# Altium schematic symbol library KP-3216SRC-PRV.SchLib: 1 symbol
Pins are listed as number, name and electrical type; pins without a type are passive.

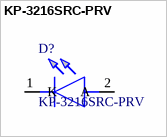
[diagram p0: symbol KP-3216SRC-PRV]

## KP-3216SRC-PRV
designator D?
Red 1206 clear chip-LED KP-3216SRC-PRV Kingbright KP-3216SRC-PRV Red LED, 640 nm 3216 (1206), Rectangle Lens SMD package; Geometry.Height: 1.2mm; Manufacturer_Name: Kingbright; Manufacturer_Part_Number: KP-3216SRC-PRV; RS Part Number: 4663914P; RS Price/Stock: http://uk.rs-online.com/web/p/products/4663914P; Arrow Part Number: KP-3216SRC-PRV; Arrow Price/Stock: http://uk.rs-online.com/web/p/products/4663914P; Datasheet Link: http://uk.rs-online.com/web/p/products/4663914
footprint LEDC3216X120N
footprint LEDC3216X120N
footprint LEDC3216X120N
pins: 1 K, 2 A